# EAGLE library part RJ45 (library mbed-HDK)
Magjack SI-68002
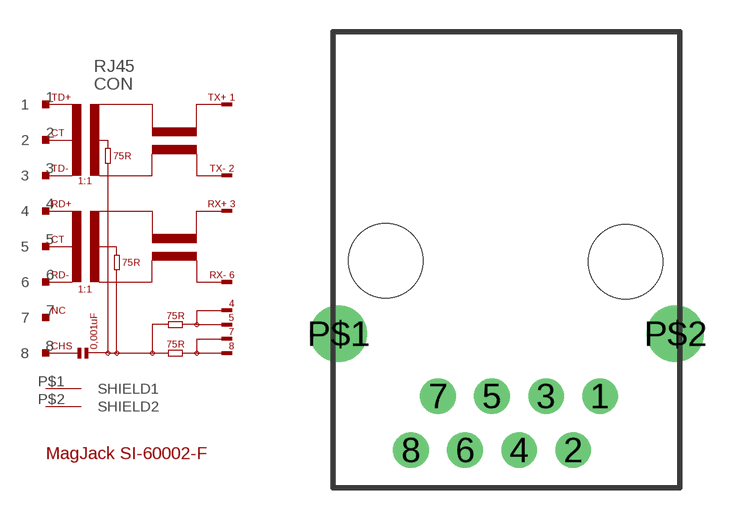
[diagram p6: symbol with the pads of RJ45; footprint RJ45]

Designator prefix CON

## RJ45  [RJ45]
1  1  pas
2  2  pas
3  3  pas
4  4  pas
5  5  pas
6  6  pas
7  7  pas
8  8  pas
P$1  SHIELD1
P$2  SHIELD2

## Footprint RJ45 (pad centres in mm)
drill 1.016 pad 1.676: 1 0,0; 2 -1.27,-2.54; 3 -2.54,0; 4 -3.81,-2.54; 5 -5.08,0; 6 -6.35,-2.54; 7 -7.62,0; 8 -8.89,-2.54
drill 1.778: P$1 -12.3,2.95; P$2 3.55,2.95
hole 3.5 at -10.09,6.38
hole 3.5 at 1.21,6.33